# Altium footprint library MyPcbLib.PcbLib: 24 footprints (part 1 of 2)
Each footprint in its own frame and in the unit in brackets; x right, y up, seen from the top. Pads: shape width x height; smd on the part's side, far side on the other; paste and mask are expansions set on the pad; w line width, h text height; cw(c..) or ccw(c..) is an arc to the next point about the centre after c.
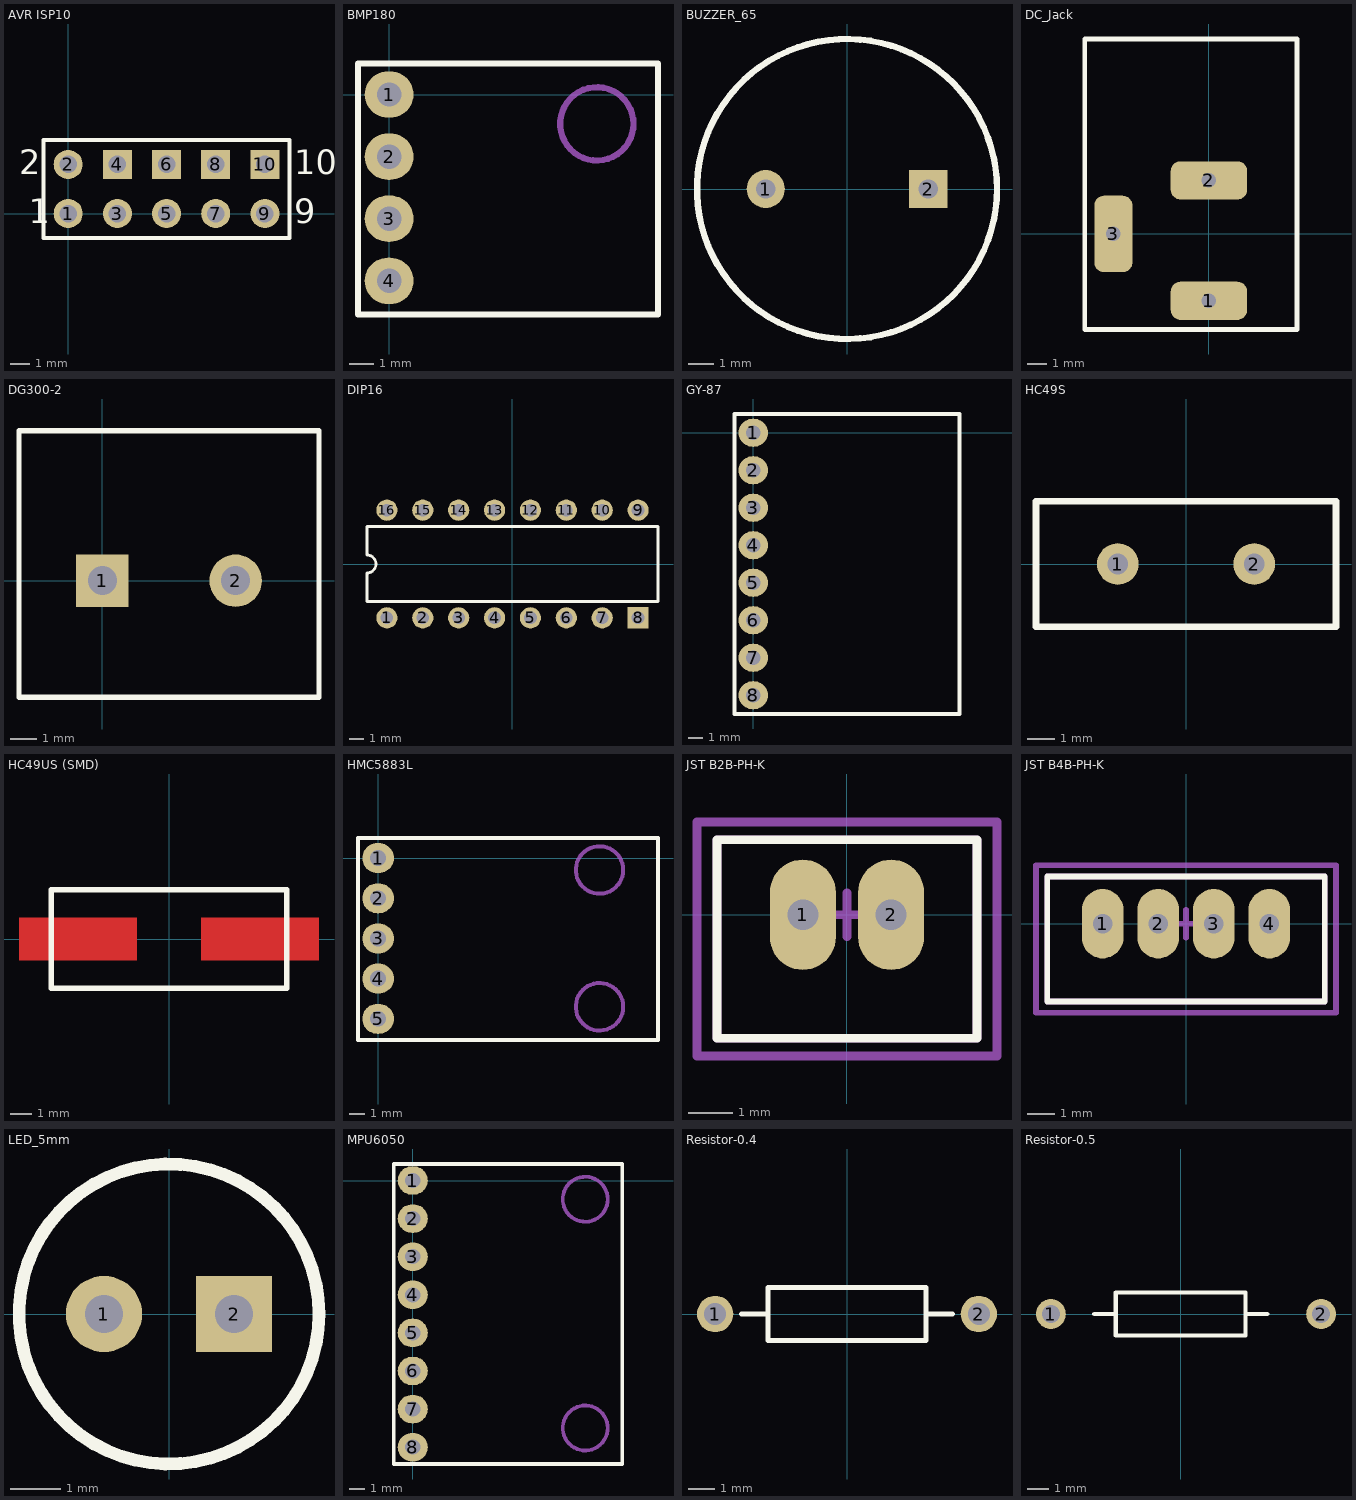
[diagram p0: the footprints below, top view; thin cyan lines are the x and y axes]

## AVR ISP10 [mm] "Connector; Header; 5x2 Position"
pads (10):
  round 1.5 hole 0.9: 1(0,0) 2(0,2.54) 3(2.54,0) 5(5.08,0) 7(7.62,0) 9(10.16,0)
  rect 1.5x1.5 hole 0.9: 4(2.54,2.54) 6(5.08,2.54) 8(7.62,2.54) 10(10.16,2.54)
Top Overlay:
  lines w0.2: -1.27,-1.27 11.43,-1.27 11.43,3.81 -1.27,3.81 -1.27,-1.27
  text "10" at 11.684,2.032 h1.27
  text "9" at 11.684,-0.508 h1.27
  text "1" at -2.032,-0.508 h1.27
  text "2" at -2.54,2.032 h1.27

## BMP180 [mm]
pads (4):
  oval 2x1.9 hole 1: 1(0,0) 2(0,-2.54) 3(0,-5.08) 4(0,-7.62)
Top Overlay:
  lines w0.254: -1.27,-9 11,-9 11,1.27 -1.27,1.27 -1.27,-9
Mechanical 1:
  circle w0.254: c8.5,-1.2 r1.5
Multi-Layer:
  circle w0.254: c8.5,-1.2 r0.5

## BUZZER_65 [mil]
pads (2):
  round 60 hole 30: 1(-127.95,0)
  rect 60x60 hole 30: 2(127.95,0)
Top Overlay:
  circle w10: c0,0 r236.22

## DC_Jack [mm]
pads (3):
  rrect50% 4x2 hole 0.762: 1(0,-3.5) 2(0,2.8)
  rrect50% 2x4 hole 0.762: 3(-5,0)
Top Overlay:
  lines w0.254: -6.5,-5 4.6,-5 4.6,-4.1 4.6,10.2 -6.5,10.2 -6.5,-5
3D body "User Library-DC_JACK_10A.step": height 11.5, standoff -3, extent -5.1,-3.95 4.5,10.15

## DG300-2 [mm]
pads (2):
  rect 2x2 hole 1.1: 1(0,0)
  round 2 hole 1.1: 2(5.08,0)
Top Overlay:
  lines w0.2: -3.175,-4.445 -3.175,5.715 8.255,5.715 8.255,-4.445 -3.175,-4.445
3D body "User Library-DG300-5_0-02P-12.step": height 12.6, standoff -4.4, extent -2.46,-4 7.54,5

## DIP16 [mm] "DIP; 16 Leads; Row Spacing 7.62 mm; Pitch 2.54 mm"
height 5.1
pads (16):
  round 1.5 hole 0.9: 1(-8.89,-3.81) 2(-6.35,-3.81) 3(-3.81,-3.81) 4(-1.27,-3.81) 5(1.27,-3.81) 6(3.81,-3.81) 7(6.35,-3.81) 9(8.89,3.81) 10(6.35,3.81) 11(3.81,3.81) 12(1.27,3.81) 13(-1.27,3.81) 14(-3.81,3.81) 15(-6.35,3.81) 16(-8.89,3.81)
  rect 1.5x1.5 hole 0.9: 8(8.89,-3.81)
Top Overlay:
  lines w0.2: -10.3,-2.65 -10.3,-0.635 ccw(c-10.3,0) -10.3,0.635 -10.3,2.65 10.3,2.65 10.3,-2.65 -10.3,-2.65
3D body "CircuitWorks-DIP16.step": height 4.19, standoff -2.57, extent -10.795,-3.937 10.795,3.937

## GY-87 [mm]
pads (8):
  oval 2x1.9 hole 1: 1(0,0) 2(0,-2.54) 3(0,-5.08) 4(0,-7.62) 5(0,-10.16) 6(0,-12.7) 7(0,-15.24) 8(0,-17.78)
Top Overlay:
  lines w0.254: -1.27,-19.05 -1.27,1.27 13.97,1.27 13.97,-19.05 -1.27,-19.05
Multi-Layer:
  circle w0.254: c11.25,-1.25 r2

## HC49S [mil]
pads (2):
  round 60 hole 30: 1(-98.43,0) 2(98.43,0)
Top Overlay:
  lines w10: -216.54,-90.55 -216.54,90.55 216.54,90.55 216.54,-90.55 -216.54,-90.55
3D body "User Library-HC-49.step": height 137.8, standoff -118.11, extent -212.6,-88.58 212.6,88.58

## HC49US (SMD) [mm]
Top Layer:
  rectangle: -7,-1 -1.5,1
  rectangle: 1.5,-1 7,1
Top Overlay:
  lines w0.254: -5.5,-2.3 5.5,-2.3 5.5,2.3 -5.5,2.3 -5.5,-2.3
3D body "User Library-HC49-SMD.step": height 5.1, standoff 0, extent -7.5,-2.25 7.5,2.25

## HMC5883L [mm]
pads (5):
  oval 2x1.9 hole 1: 1(0,0) 2(0,-2.54) 3(0,-5.08) 4(0,-7.62) 5(0,-10.16)
Top Overlay:
  lines w0.254: -1.27,-11.5 -1.27,1.27 17.7,1.27 17.7,-11.5 -1.27,-11.5
Mechanical 1:
  circle w0.254: c14,-0.75 r1.5
  circle w0.254: c14,-9.4 r1.5
Multi-Layer:
  circle w0.254: c14,-0.75 r0.5
  circle w0.254: c14,-9.4 r0.5

## JST B2B-PH-K [mm]
height 6
pads (2):
  oval 1.5x2.5 hole 0.7: 1(-1,0) 2(1,0)
Top Overlay:
  lines w0.2: -2.95,-2.8 2.95,-2.8 2.95,1.7 -2.95,1.7 -2.95,-2.8
Bottom Overlay:
  circle w0.254: c-2.1,1.1 r0.141
Mechanical 13:
  lines w0.2: -2.95,-2.8 -2.95,1.7 2.95,1.7 2.95,-2.8 -2.95,-2.8
Mechanical 15:
  lines w0.2: -0.5,0 0.5,0 ; 0,-0.5 0,0.5 ; -3.4,-3.2 -3.4,2.1 3.4,2.1 3.4,-3.2 -3.4,-3.2
3D body "JST B2B-PH-K-S.STEP": height 6, standoff -3.4, extent -2.95,-2.8 2.95,1.7

## JST B4B-PH-K [mm]
height 6
pads (4):
  oval 1.5x2.5 hole 0.7: 1(-3,0) 2(-1,0) 3(1,0) 4(3,0)
Top Overlay:
  lines w0.2: -5,-2.8 5,-2.8 5,1.7 -5,1.7 -5,-2.8
Bottom Overlay:
  circle w0.254: c-4.1,1.1 r0.141
Mechanical 13:
  lines w0.2: -5,-2.8 -5,1.7 5,1.7 5,-2.8 -5,-2.8
Mechanical 15:
  lines w0.2: -0.5,0 0.5,0 ; 0,-0.5 0,0.5 ; -5.4,-3.2 -5.4,2.1 5.4,2.1 5.4,-3.2 -5.4,-3.2
3D body "JST B4B-PH-K-S.STEP": height 6, standoff -3.4, extent -4.95,-2.8 4.95,1.7

## LED_5mm [mil]
pads (2):
  round 60 hole 30: 1(-51.18,0)
  rect 60x60 hole 30: 2(51.18,0)
Top Overlay:
  circle w10: c0,0 r118.11
3D body "User Library-LED5MM.step": height 496.06, standoff -118.11, extent -116.14,-116.14 116.14,116.15

## MPU6050 [mm]
pads (8):
  oval 2x1.9 hole 1: 1(0,0) 2(0,-2.54) 3(0,-5.08) 4(0,-7.62) 5(0,-10.16) 6(0,-12.7) 7(0,-15.24) 8(0,-17.78)
Top Overlay:
  lines w0.254: -1.27,-18.9 13.97,-18.9 13.97,1.1 -1.27,1.1 -1.27,-18.9
Mechanical 1:
  circle w0.254: c11.5,-1.25 r1.5
  circle w0.254: c11.5,-16.5 r1.5
Multi-Layer:
  circle w0.254: c11.5,-1.25 r0.5
  circle w0.254: c11.5,-16.5 r0.5

## Resistor-0.4 [mm] "Axial Device, Thru-Hole; 2 Leads; 0.4 in Pin Spacing"
height 2.032
pads (2):
  round 1.4 hole 0.85: 1(-5.08,0) 2(5.08,0)
Top Overlay:
  lines w0.2: -4.064,0 -3.048,0 ; 3.048,0 4.064,0 ; -3.048,-1.016 3.048,-1.016 3.048,1.016 -3.048,1.016 -3.048,-1.016
3D body "User Library-RESISTOR, 0_25 W, 0_4 IN LEAD PITCH.step": height 2.93, standoff -2.54, extent -5.385,-1.156 5.385,1.156

## Resistor-0.5 [mm] "Axial Device, Thru-Hole; 2 Leads; 0.4 in Pin Spacing"
height 2.032
pads (2):
  round 1.4 hole 0.85: 1(-6.1,0) 2(6.6,0)
Top Overlay:
  lines w0.2: -4.064,0 -3.048,0 ; 3.048,0 4.064,0 ; -3.048,-1.016 3.048,-1.016 3.048,1.016 -3.048,1.016 -3.048,-1.016
3D body "User Library-RESISTOR, 0_25 W, 0_4 IN LEAD PITCH.step": height 2.93, standoff -2.54, extent -5.385,-1.156 5.385,1.156